# Altium schematic symbol library BufLib.SchLib: 1 symbol
Pins are listed as number, name and electrical type; pins without a type are passive.

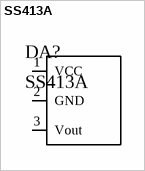
[diagram p0: symbol SS413A]

## SS413A
designator DA?
pins: 1 VCC, 2 GND, 3 Vout